# Altium footprint library PT_4PIN_2.54mm.PcbLib: 1 footprints
Each footprint in its own frame and in the unit in brackets; x right, y up, seen from the top. Pads: shape width x height; smd on the part's side, far side on the other; paste and mask are expansions set on the pad; w line width, h text height; cw(c..) or ccw(c..) is an arc to the next point about the centre after c.
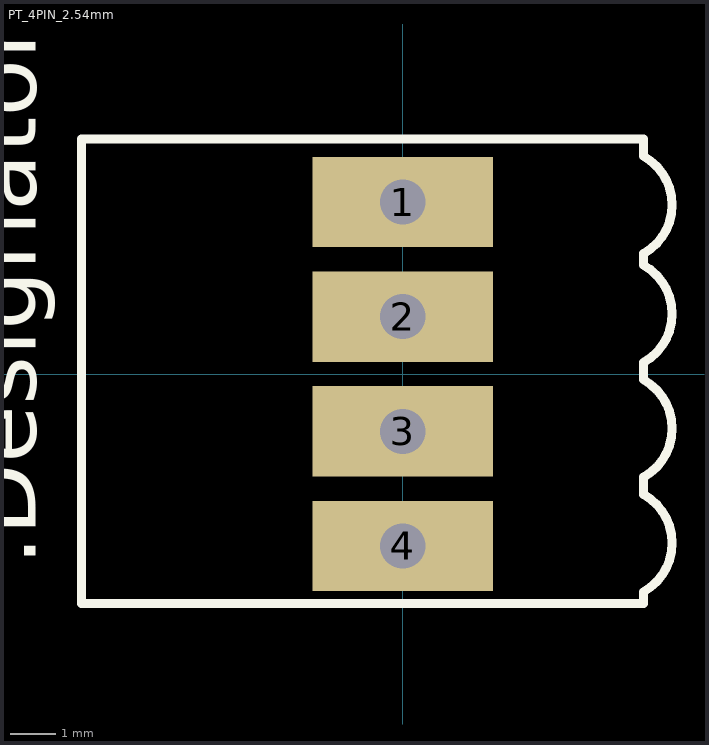
[diagram p0: the footprint, top view; thin cyan lines are the x and y axes]

## PT_4PIN_2.54mm [mm]
pads (4):
  rect 4x2 hole 1: 1(0,3.81) 2(0,1.27) 3(0,-1.27) 4(0,-3.81)
Top Overlay:
  lines w0.2: -7.112,-5.08 5.334,-5.08 5.334,-4.826 ccw(c4.737,-3.746) 5.334,-2.667 5.334,-2.286 ccw(c4.737,-1.206) 5.334,-0.127 5.334,0.254 ccw(c4.737,1.333) 5.334,2.413 5.334,2.667 ccw(c4.737,3.746) 5.334,4.826 5.334,5.207 5.207,5.207 -7.112,5.207 -7.112,-5.08
  text "'.Designator'" at -8.128,-4.826 h1.52
3D body "PT_4_PIn_2.5.x_t": height 14.01, standoff -3.24, extent -6.889,-4.96 5.111,5.04